# EAGLE library part 691357300008B (library Wurth_Connectors_WR-TBL Pluggable Connector)
WR-TBL Serie 357B - 3.81 mm Double Level Vertical Male PCB Header with Flanges KIND PROPERTIES Pitch 3.81 mm MATERIAL PROPERTIES Insulator Material PA66 Insulator Flammability Rating UL94 V-0 Contact Material Brass Contact Plating Tin GENERAL INFORMATION Operating Temperature -40 up to +105 °C Compliance RoHS ELECTRICAL PROPERTIES IR UL 10 A Working Voltage [UL] 300 V (AC) Withstanding Voltage [cULus] 2000 V (AC) Contact Resistance [cULus] 20 mΩ CERTIFICATION cULus Approval E315414 <https://www.we-online.com/catalog/media/o60706v209%20Family_WR-TBL_Serie_357B_6913573000xxB.jpg> Details see: https://www.we-online.com/catalog/en/TBL_3_81_357B_DOUBLE_LEVEL_VERTICAL_MALE_PCB_HEADER_W_FLANGES_6913573000XXB/ Updated by Ella Wu 2019-12-23 2022(C) Wurth Elektronik
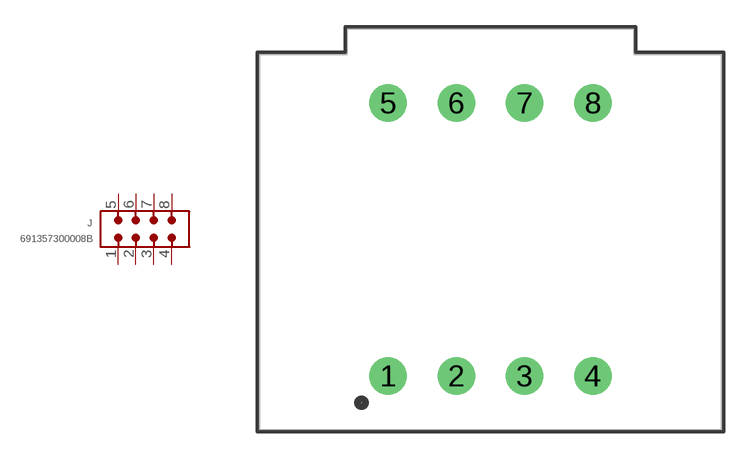
[diagram p5: symbol with the pads of 691357300008B; footprint 691357300008B]

Designator prefix J

## 691357300008B (DATASHEET-URL: https://www.we-online.com/redexpert/spec/691357300008B?ae; IR-UL: 10A; MOUNT: THT; PART-NUMBER: 691357300008B; PINS: 8; PITCH: 3.81mm; TYPE: Double Level Vertical; VALUE: 691357300008B; WORKING-VOLTAGE-UL: 300V (AC))  [691357300008B]
1  1  pas
2  2  pas
3  3  pas
4  4  pas
5  5  pas
6  6  pas
7  7  pas
8  8  pas

## Footprint 691357300008B (pad centres in mm)
WR-TBL Serie 357B - 3.81 mm Double Level Vertical Male PCB Header with Flanges Max Height = 21.9mm , Pitch 3.81mm ,8pins
drill 1.4: 1 -5.715,-7.62; 2 -1.905,-7.62; 3 1.905,-7.62; 4 5.715,-7.62; 5 -5.715,7.62; 6 -1.905,7.62; 7 1.905,7.62; 8 5.715,7.62